# EAGLE library part TC7660 (library robot-hand)
TC7660 Charge Pump DC-to-DC Voltage Converter
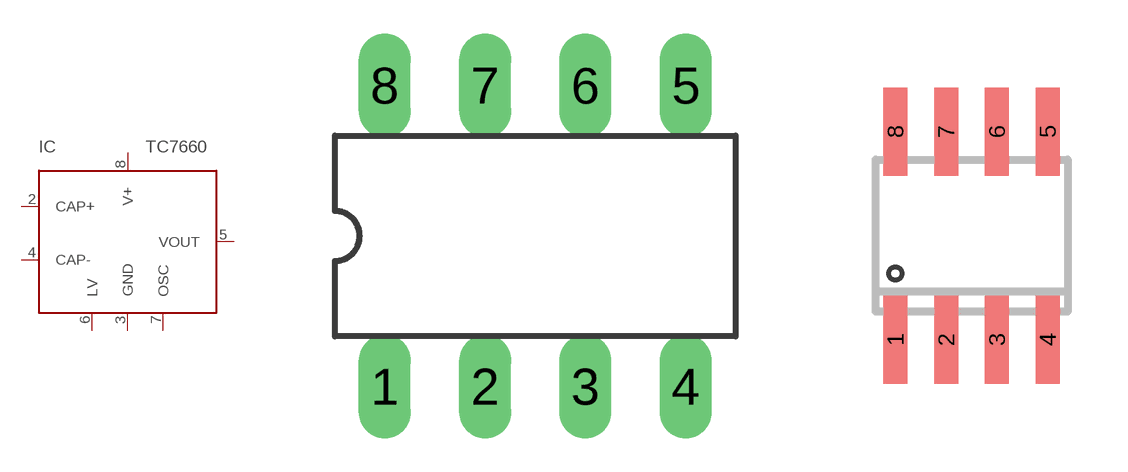
[diagram p12: symbol with the pads of DIL8; footprints DIL8, SO-08]

Designator prefix IC

## TC7660DIL8  [DIL8]
2  CAP+
3  GND
4  CAP-
5  VOUT
6  LV
7  OSC
8  V+

## TC7660SO-08  [SO-08]
Pads as for DIL8

## Footprint DIL8 (pad centres in mm)
DIL8
drill 0.813 long: 1 -3.81,-3.81; 2 -1.27,-3.81; 3 1.27,-3.81; 4 3.81,-3.81; 5 3.81,3.81; 6 1.27,3.81; 7 -1.27,3.81; 8 -3.81,3.81

## Footprint SO-08 (pad centres in mm)
SO-08
smd 0.6 x 2.2: 1 -1.905,-2.6; 2 -0.635,-2.6; 3 0.635,-2.6; 4 1.905,-2.6; 5 1.905,2.6; 6 0.635,2.6; 7 -0.635,2.6; 8 -1.905,2.6